# EAGLE library part TFT_LCD (library MyDuino)
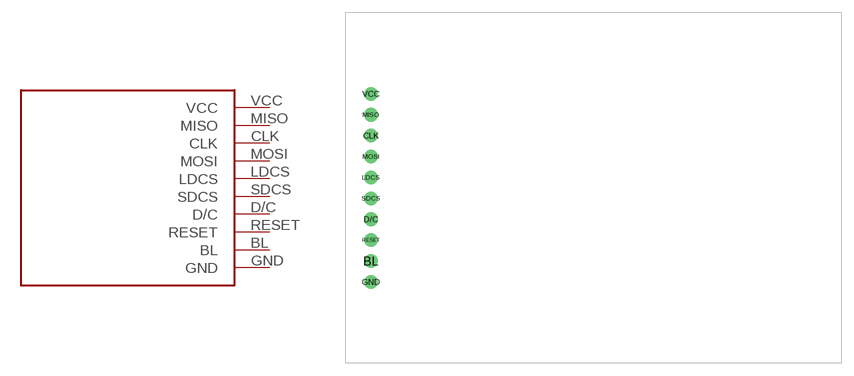
[diagram p1: symbol with the pads of TFT_LCD; footprint TFT_LCD]

Designator prefix -

## TFT_LCD  [TFT_LCD]
BL  BL
CLK  CLK
D/C  D/C
GND  GND
LDCS  LDCS
MISO  MISO
MOSI  MOSI
RESET  RESET
SDCS  SDCS
VCC  VCC

## Footprint TFT_LCD (pad centres in mm)
drill 1.1: BL -57.15,12.7; CLK -57.15,27.94; D/C -57.15,17.78; GND -57.15,10.16; LDCS -57.15,22.86; MISO -57.15,30.48; MOSI -57.15,25.4; RESET -57.15,15.24; SDCS -57.15,20.32; VCC -57.15,33.02